# Altium integrated library Motorola Interface Display Driver.IntLib: 14 symbols
Pins are listed as number, name and electrical type; pins without a type are passive.

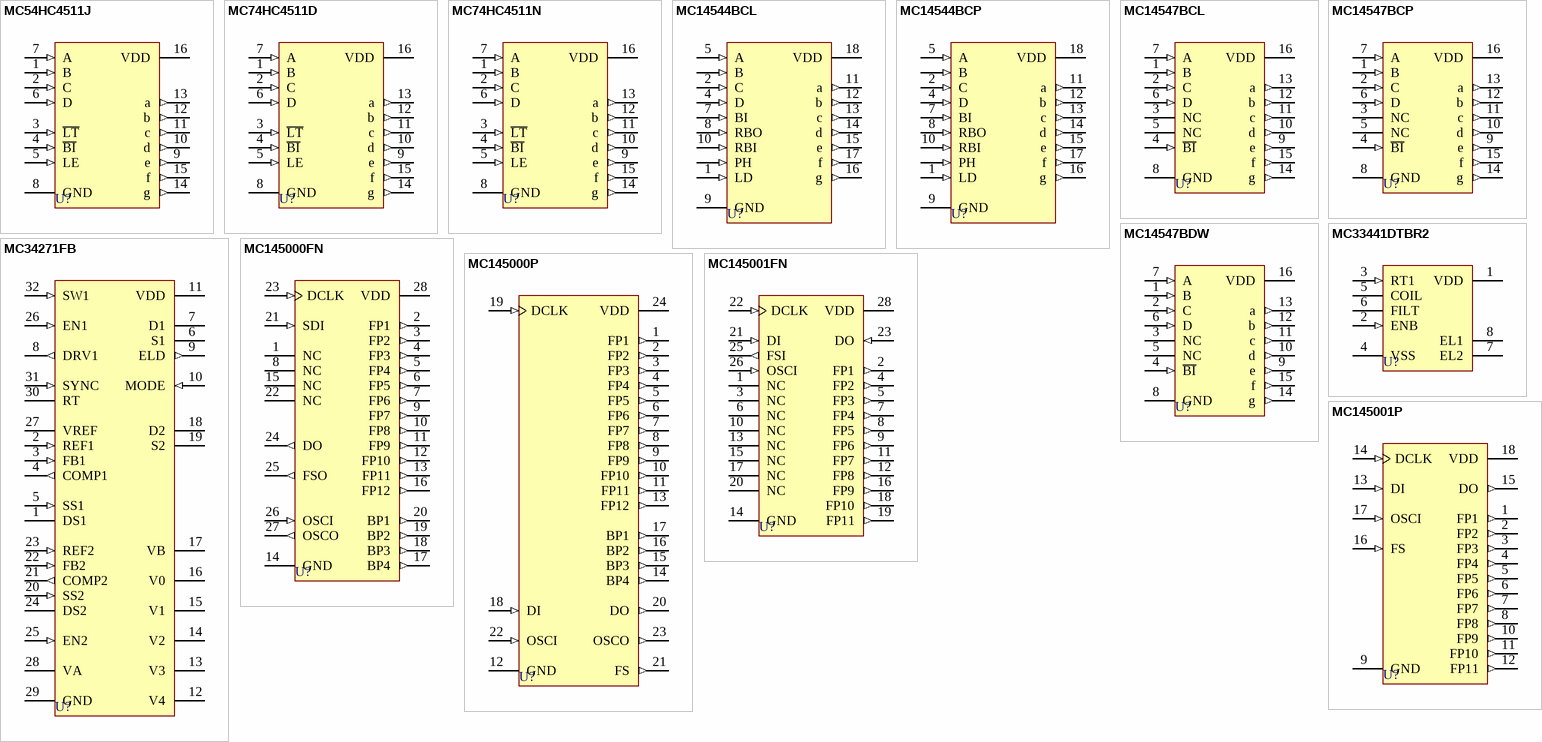
[diagram p0: symbols MC54HC4511J to MC145001P]

## MC54HC4511J
designator U?
BCD-to-Seven-Segment Latch/Decoder/Display Driver; Published: 17-Jul-2002; LatestRevisionDate: 06-Jun-2005; LatestRevisionNote: Stylized 3D Model Added.; DatasheetVersion: 1989; PackageReference: 620-09; Publisher: Altium Limited; PackageDescription: DIP; 16 Leads; Row Spacing 7.62 mm; Pitch 2.54 mm; Code_JEDEC: MS-001-BB; ComponentLink1Description: Manufacturer Link; ComponentLink1URL: http://www.onsemi.com/site/products/parametrics/0,4446,197,00.html
footprint 620-09 (DIP; 16 Leads; Row Spacing 7.62 mm; Pitch 2.54 mm)
3D model 620-09 (DIP; 16 Leads; Row Spacing 7.62 mm; Pitch 2.54 mm)
signal-integrity model MC54HC4511J
pins: 1 B (in), 2 C (in), 3 ~{LT} (in), 4 ~{BI} (in), 5 LE (in), 6 D (in), 7 A (in), 8 GND (power), 9 e (out), 10 d (out), 11 c (out), 12 b (out), 13 a (out), 14 g (out), 15 f (out), 16 VDD (power)

## MC74HC4511D
designator U?
BCD-to-Seven-Segment Latch/Decoder/Display Driver; Published: 17-Jul-2002; LatestRevisionDate: 13-Apr-2006; LatestRevisionNote: IPC-7351 Footprint Added.; DatasheetVersion: 1989; PackageVersion: 1991; PackageReference: 751B-03; Publisher: Altium Limited; PackageDescription: 16-Pin Small Outline Integrated Circuit 1.27 mm Pitch; Code_JEDEC: MS-012-AC; Code_IPC: SOIC127P600-16; ComponentLink1Description: Manufacturer Link; ComponentLink1URL: http://www.onsemi.com/site/products/parametrics/0,4446,197,00.html
footprint 751B-03_N (SOIC, 16-Leads, Body 9.9x3.9mm, Pitch 1.27mm, IPC Medium Density)
footprint 751B-03_L (SOIC, 16-Leads, Body 9.9x3.9mm, Pitch 1.27mm, IPC High Density)
footprint 751B-03_M (SOIC, 16-Leads, Body 9.9x3.9mm, Pitch 1.27mm, IPC Low Density)
3D model 751B-03 (16-Pin Small Outline Integrated Circuit 1.27 mm Pitch)
signal-integrity model MC74HC4511D
pins: 1 B (in), 2 C (in), 3 ~{LT} (in), 4 ~{BI} (in), 5 LE (in), 6 D (in), 7 A (in), 8 GND (power), 9 e (out), 10 d (out), 11 c (out), 12 b (out), 13 a (out), 14 g (out), 15 f (out), 16 VDD (power)

## MC74HC4511N
designator U?
BCD-to-Seven-Segment Latch/Decoder/Display Driver; Published: 17-Jul-2002; LatestRevisionDate: 06-Jun-2005; LatestRevisionNote: Stylized 3D Model Added.; DatasheetVersion: 1989; PackageReference: 648-08; Publisher: Altium Limited; PackageDescription: DIP; 16 Leads; Row Spacing 7.62 mm; Pitch 2.54 mm; Code_JEDEC: MS-001-BB; ComponentLink1Description: Manufacturer Link; ComponentLink1URL: http://www.onsemi.com/site/products/parametrics/0,4446,197,00.html
footprint 648-08 (DIP; 16 Leads; Row Spacing 7.62 mm; Pitch 2.54 mm)
3D model 620-09 (DIP; 16 Leads; Row Spacing 7.62 mm; Pitch 2.54 mm)
signal-integrity model MC74HC4511N
pins: 1 B (in), 2 C (in), 3 ~{LT} (in), 4 ~{BI} (in), 5 LE (in), 6 D (in), 7 A (in), 8 GND (power), 9 e (out), 10 d (out), 11 c (out), 12 b (out), 13 a (out), 14 g (out), 15 f (out), 16 VDD (power)

## MC14544BCL
designator U?
BCD-to-Seven Segment Latch/Decoder/Driver with Ripple Blanking; Published: 17-Jul-2002; LatestRevisionDate: 06-Jun-2005; LatestRevisionNote: Stylized 3D Model Added.; DatasheetVersion: 1991; PackageReference: 726-04; Publisher: Altium Limited; PackageDescription: DIP; 18 Leads; Row Spacing 7.62 mm; Pitch 2.54 mm; ComponentLink1Description: Manufacturer Link; ComponentLink1URL: http://www.onsemi.com/site/products/parametrics/0,4446,197,00.html
footprint 726-04 (DIP; 18 Leads; Row Spacing 7.62 mm; Pitch 2.54 mm)
3D model 707-02 (DIP; 18 Leads; Row Spacing 7.62 mm; Pitch 2.54 mm)
pins: 1 LD (in), 2 C (in), 3 B (in), 4 D (in), 5 A (in), 6 PH (in), 7 BI (in), 8 RBO (in), 9 GND (power), 10 RBI (in), 11 a (out), 12 b (out), 13 c (out), 14 d (out), 15 e (out), 16 g (out), 17 f (out), 18 VDD (power)

## MC14544BCP
designator U?
BCD-to-Seven Segment Latch/Decoder/Driver with Ripple Blanking; Published: 17-Jul-2002; LatestRevisionDate: 06-Jun-2005; LatestRevisionNote: Stylized 3D Model Added.; DatasheetVersion: 1991; PackageReference: 707-02; Publisher: Altium Limited; PackageDescription: DIP; 18 Leads; Row Spacing 7.62 mm; Pitch 2.54 mm; ComponentLink1Description: Manufacturer Link; ComponentLink1URL: http://www.onsemi.com/site/products/parametrics/0,4446,197,00.html
footprint 707-02 (DIP; 18 Leads; Row Spacing 7.62 mm; Pitch 2.54 mm)
3D model 707-02 (DIP; 18 Leads; Row Spacing 7.62 mm; Pitch 2.54 mm)
pins: 1 LD (in), 2 C (in), 3 B (in), 4 D (in), 5 A (in), 6 PH (in), 7 BI (in), 8 RBO (in), 9 GND (power), 10 RBI (in), 11 a (out), 12 b (out), 13 c (out), 14 d (out), 15 e (out), 16 g (out), 17 f (out), 18 VDD (power)

## MC14547BCL
designator U?
High-Current BCD-to-Seven-Segment Decoder/Driver; Published: 17-Jul-2002; LatestRevisionDate: 06-Jun-2005; LatestRevisionNote: Stylized 3D Model Added.; DatasheetVersion: 1991; PackageReference: 620-09; Publisher: Altium Limited; PackageDescription: DIP; 16 Leads; Row Spacing 7.62 mm; Pitch 2.54 mm; Code_JEDEC: MS-001-BB; ComponentLink1Description: Manufacturer Link; ComponentLink1URL: http://www.onsemi.com/site/products/parametrics/0,4446,197,00.html
footprint 620-09 (DIP; 16 Leads; Row Spacing 7.62 mm; Pitch 2.54 mm)
3D model 620-09 (DIP; 16 Leads; Row Spacing 7.62 mm; Pitch 2.54 mm)
pins: 1 B (in), 2 C (in), 3 NC, 4 ~{BI} (in), 5 NC, 6 D (in), 7 A (in), 8 GND (power), 9 e (out), 10 d (out), 11 c (out), 12 b (out), 13 a (out), 14 g (out), 15 f (out), 16 VDD (power)

## MC14547BCP
designator U?
High-Current BCD-to-Seven-Segment Decoder/Driver; Published: 17-Jul-2002; LatestRevisionDate: 06-Jun-2005; LatestRevisionNote: Stylized 3D Model Added.; DatasheetVersion: 1991; PackageReference: 648-08; Publisher: Altium Limited; PackageDescription: DIP; 16 Leads; Row Spacing 7.62 mm; Pitch 2.54 mm; Code_JEDEC: MS-001-BB; ComponentLink1Description: Manufacturer Link; ComponentLink1URL: http://www.onsemi.com/site/products/parametrics/0,4446,197,00.html
footprint 648-08 (DIP; 16 Leads; Row Spacing 7.62 mm; Pitch 2.54 mm)
3D model 620-09 (DIP; 16 Leads; Row Spacing 7.62 mm; Pitch 2.54 mm)
pins: 1 B (in), 2 C (in), 3 NC, 4 ~{BI} (in), 5 NC, 6 D (in), 7 A (in), 8 GND (power), 9 e (out), 10 d (out), 11 c (out), 12 b (out), 13 a (out), 14 g (out), 15 f (out), 16 VDD (power)

## MC14547BDW
designator U?
High-Current BCD-to-Seven-Segment Decoder/Driver; Published: 17-Jul-2002; LatestRevisionDate: 13-Apr-2006; LatestRevisionNote: IPC-7351 Footprint Added.; DatasheetVersion: 1991; PackageReference: 751G-01; Publisher: Altium Limited; PackageDescription: 16-Pin Small Outline Integrated Circuit 1.27 mm Pitch; ComponentLink1Description: Manufacturer Link; ComponentLink1URL: http://www.onsemi.com/site/products/parametrics/0,4446,197,00.html
footprint 751G-01_N (SOIC, 16-Leads, Body 10.3x7.5mm, Pitch 1.27mm, IPC Medium Density)
footprint 751G-01_L (SOIC, 16-Leads, Body 10.3x7.5mm, Pitch 1.27mm, IPC High Density)
footprint 751G-01_M (SOIC, 16-Leads, Body 10.3x7.5mm, Pitch 1.27mm, IPC Low Density)
3D model 751G-01 (16-Pin Small Outline Integrated Circuit 1.27 mm Pitch)
pins: 1 B (in), 2 C (in), 3 NC, 4 ~{BI} (in), 5 NC, 6 D (in), 7 A (in), 8 GND (power), 9 e (out), 10 d (out), 11 c (out), 12 b (out), 13 a (out), 14 g (out), 15 f (out), 16 VDD (power)

## MC33441DTBR2
designator U?
Electroluminescent Lamp Driver IC; Published: 17-Jul-2002; LatestRevisionDate: 06-Jun-2005; LatestRevisionNote: Stylized 3D Model Added.; DatasheetVersion: Apr-2000; PackageReference: 948J-01; Publisher: Altium Limited; PackageDescription: Shrink Small Outline; 8 Leads; Body Width 4.4 mm; Pitch 0.65 mm; ComponentLink1Description: Manufacturer Link; ComponentLink1URL: http://www.onsemi.com/site/products/parametrics/0,4446,197,00.html; ComponentLink2Description: Datasheet; ComponentLink2URL: http://www.onsemi.com/pub/Collateral/MC33441-D.PDF
footprint 948J-01 (Shrink Small Outline; 8 Leads; Body Width 4.4 mm; Pitch 0.65 mm)
3D model 948J-01 (Shrink Small Outline; 8 Leads; Body Width 4.4 mm; Pitch 0.65 mm)
pins: 1 VDD (power), 2 ENB (in), 3 RT1 (in), 4 VSS (power), 5 COIL (oc), 6 FILT, 7 EL2 (oc), 8 EL1 (oc)

## MC34271FB
designator U?
LCD/Backlight Display Controller; Published: 17-Jul-2002; LatestRevisionDate: 13-Apr-2006; LatestRevisionNote: IPC-7351 Footprint Added.; DatasheetVersion: Apr-2000; PackageVersion: May-1997; PackageReference: 873-01; Publisher: Altium Limited; PackageDescription: 32-Pin Thin Quad Flat Pack 0.8 mm Pitch; ComponentLink1Description: Manufacturer Link; ComponentLink1URL: http://www.onsemi.com/site/products/parametrics/0,4446,197,00.html
footprint 873-01_N (Thin QFP, 32-Leads, Body 7x7mm, Pitch 0.8mm, IPC Medium Density)
footprint 873-01_L (Thin QFP, 32-Leads, Body 7x7mm, Pitch 0.8mm, IPC High Density)
footprint 873-01_M (Thin QFP, 32-Leads, Body 7x7mm, Pitch 0.8mm, IPC Low Density)
3D model MC34271-873-01 (32-Pin Thin Quad Flat Pack 0.8 mm Pitch)
pins: 1 DS1 (oc), 2 REF1 (in), 3 FB1 (in), 4 COMP1 (out), 5 SS1 (in), 6 S1, 7 D1 (oc), 8 DRV1 (out), 9 ELD (out), 10 MODE (in), 11 VDD (power), 12 V4 (power), 13 V3 (power), 14 V2 (power), 15 V1 (power), 16 V0 (power), 17 VB (power), 18 D2 (oc), 19 S2, 20 SS2 (in), 21 COMP2 (out), 22 FB2 (in), 23 REF2 (in), 24 DS2 (oc), 25 EN2 (in), 26 EN1 (in), 27 VREF (power), 28 VA (power), 29 GND (power), 30 RT, 31 SYNC (in), 32 SW1 (in)

## MC145000FN
designator U?
48-Segment Multiplexed LCD Driver (Master); Published: 17-Jul-2002; LatestRevisionDate: 13-Apr-2006; LatestRevisionNote: IPC-7351 Footprint Added.; DatasheetVersion: 1991; PackageReference: 776-02; Publisher: Altium Limited; PackageDescription: 28-Pin Leaded Chip Carrier 1.27 mm Pitch; ComponentLink1Description: Manufacturer Link; ComponentLink1URL: http://www.onsemi.com/site/products/parametrics/0,4446,197,00.html
footprint 776-02_N (Leaded Chip Carrier, 28-Leads, Body 11.5x11.5mm, Pitch 1.27mm, IPC Medium Density)
footprint 776-02_L (Leaded Chip Carrier, 28-Leads, Body 11.5x11.5mm, Pitch 1.27mm, IPC High Density)
footprint 776-02_M (Leaded Chip Carrier, 28-Leads, Body 11.5x11.5mm, Pitch 1.27mm, IPC Low Density)
3D model MC145000-776-02 (28-Pin Leaded Chip Carrier 1.27 mm Pitch)
pins: 1 NC, 2 FP1 (out), 3 FP2 (out), 4 FP3 (out), 5 FP4 (out), 6 FP5 (out), 7 FP6 (out), 8 NC, 9 FP7 (out), 10 FP8 (out), 11 FP9 (out), 12 FP10 (out), 13 FP11 (out), 14 GND (power), 15 NC, 16 FP12 (out), 17 BP4 (out), 18 BP3 (out), 19 BP2 (out), 20 BP1 (out), 21 SDI (in), 22 NC, 23 DCLK (in), 24 DO (out), 25 FSO (out), 26 OSCI (in), 27 OSCO (out), 28 VDD (power)

## MC145000P
designator U?
48-Segment Multiplexed LCD Driver (Master); Published: 17-Jul-2002; LatestRevisionDate: 06-Jun-2005; LatestRevisionNote: Stylized 3D Model Added.; DatasheetVersion: 1991; PackageReference: 709-02; Publisher: Altium Limited; PackageDescription: DIP; 24 Leads; Row Spacing 15.24 mm; Pitch 2.54 mm; ComponentLink1Description: Manufacturer Link; ComponentLink1URL: http://www.onsemi.com/site/products/parametrics/0,4446,197,00.html
footprint 709-02 (DIP; 24 Leads; Row Spacing 15.24 mm; Pitch 2.54 mm)
3D model 709-02 (DIP; 24 Leads; Row Spacing 15.24 mm; Pitch 2.54 mm)
pins: 1 FP1 (out), 2 FP2 (out), 3 FP3 (out), 4 FP4 (out), 5 FP5 (out), 6 FP6 (out), 7 FP7 (out), 8 FP8 (out), 9 FP9 (out), 10 FP10 (out), 11 FP11 (out), 12 GND (power), 13 FP12 (out), 14 BP4 (out), 15 BP3 (out), 16 BP2 (out), 17 BP1 (out), 18 DI (in), 19 DCLK (in), 20 DO (out), 21 FS (out), 22 OSCI (in), 23 OSCO (out), 24 VDD (power)

## MC145001FN
designator U?
44-Segment Multiplexed LCD Driver (Slave); Published: 17-Jul-2002; LatestRevisionDate: 13-Apr-2006; LatestRevisionNote: IPC-7351 Footprint Added.; DatasheetVersion: 1991; PackageReference: 776-02; Publisher: Altium Limited; PackageDescription: 28-Pin Leaded Chip Carrier 1.27 mm Pitch; ComponentLink1Description: Manufacturer Link; ComponentLink1URL: http://www.onsemi.com/site/products/parametrics/0,4446,197,00.html
footprint 776-02_N (Leaded Chip Carrier, 28-Leads, Body 11.5x11.5mm, Pitch 1.27mm, IPC Medium Density)
footprint 776-02_L (Leaded Chip Carrier, 28-Leads, Body 11.5x11.5mm, Pitch 1.27mm, IPC High Density)
footprint 776-02_M (Leaded Chip Carrier, 28-Leads, Body 11.5x11.5mm, Pitch 1.27mm, IPC Low Density)
3D model MC145001-776-02 (28-Pin Leaded Chip Carrier 1.27 mm Pitch)
pins: 1 NC, 2 FP1 (out), 3 NC, 4 FP2 (out), 5 FP3 (out), 6 NC, 7 FP4 (out), 8 FP5 (out), 9 FP6 (out), 10 NC, 11 FP7 (out), 12 FP8 (out), 13 NC, 14 GND (power), 15 NC, 16 FP9 (out), 17 NC, 18 FP10 (out), 19 FP11 (out), 20 NC, 21 DI (in), 22 DCLK (in), 23 DO (in), 25 FSI (out), 26 OSCI (in), 28 VDD (power)

## MC145001P
designator U?
44-Segment Multiplexed LCD Driver (Slave); Published: 17-Jul-2002; LatestRevisionDate: 06-Jun-2005; LatestRevisionNote: Stylized 3D Model Added.; DatasheetVersion: 1991; PackageReference: 707-02; Publisher: Altium Limited; PackageDescription: DIP; 18 Leads; Row Spacing 7.62 mm; Pitch 2.54 mm; ComponentLink1Description: Manufacturer Link; ComponentLink1URL: http://www.onsemi.com/site/products/parametrics/0,4446,197,00.html
footprint 707-02 (DIP; 18 Leads; Row Spacing 7.62 mm; Pitch 2.54 mm)
3D model 707-02 (DIP; 18 Leads; Row Spacing 7.62 mm; Pitch 2.54 mm)
pins: 1 FP1 (out), 2 FP2 (out), 3 FP3 (out), 4 FP4 (out), 5 FP5 (out), 6 FP6 (out), 7 FP7 (out), 8 FP8 (out), 9 GND (power), 10 FP9 (out), 11 FP10 (out), 12 FP11 (out), 13 DI (in), 14 DCLK (in), 15 DO (out), 16 FS (in), 17 OSCI (in), 18 VDD (power)